# Altium footprint library PowerPAK-1212-8.PcbLib: 1 footprints
Each footprint in its own frame and in the unit in brackets; x right, y up, seen from the top. Pads: shape width x height; smd on the part's side, far side on the other; paste and mask are expansions set on the pad; w line width, h text height; cw(c..) or ccw(c..) is an arc to the next point about the centre after c.
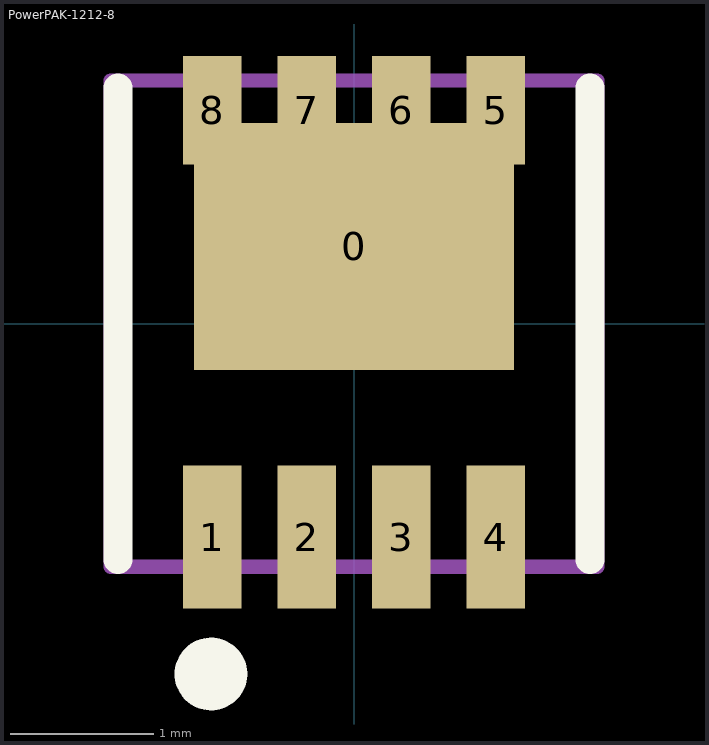
[diagram p0: the footprint, top view; thin cyan lines are the x and y axes]

## PowerPAK-1212-8 [mm]
pads (9):
  rect 2.235x1.725 smd mask+0.051: 0(0,0.54)
  rect 0.41x1 smd mask+0.051: 1(-0.99,-1.492) 2(-0.33,-1.492) 3(0.33,-1.492) 4(0.99,-1.492)
  rect 0.41x0.76 smd mask+0.051: 5(0.99,1.492) 6(0.33,1.492) 7(-0.33,1.492) 8(-0.99,1.492)
Top Overlay:
  circle w0.254: c-1,-2.45 r0.127
  lines w0.2: -1.65,-1.65 -1.65,1.65 ; 1.65,-1.65 1.65,1.65
Mechanical 13:
  lines w0.1: -1.7,-1.7 1.7,-1.7 1.7,1.7 -1.7,1.7 -1.7,-1.7